# Altium schematic symbol library SLW1TTE13L0F.SchLib: 1 symbol
Pins are listed as number, name and electrical type; pins without a type are passive.

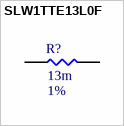
[diagram p0: symbol SLW1TTE13L0F]

## SLW1TTE13L0F
designator R?, comment Resistance: 13m  Tolerance: 1%  (hidden comment: 13m, 1%)
Current Sense Resistors - SMD 0.013 Ohms 1% 1.5 WATT +/-180 ppm; MFR: KOA Speer; PN: SLW1TTE13L0F; Power Rating: 1.5W; Footprint: RES2512; Package: 2512; ComponentLink1Description: Datasheet; Supplier 1: Mouser; Supplier Part Number 1: 660-SLW1TTE13L0F
footprint RES_2512
pins: 1, 2